# EAGLE library part SIM_HOLDER (library everykey)
SIM card (Mini, ID-000) holder, 6 pins plus holder pads
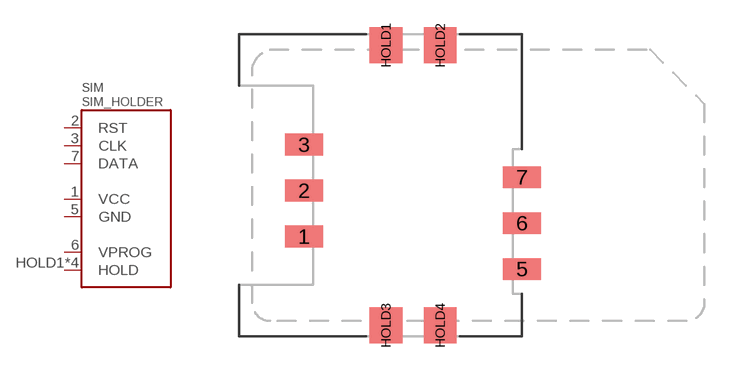
[diagram p90: symbol with the pads of AVX_9162; footprint AVX_9162]

Designator prefix SIM

## SIM_HOLDER_PUSH-PULL  [AVX_9162]
1  VCC  pwr
2  RST
3  CLK
5  GND  pwr
6  VPROG  pwr
7  DATA
HOLD1  HOLD  pas
HOLD2  HOLD  pas
HOLD3  HOLD  pas
HOLD4  HOLD  pas

## Footprint AVX_9162 (pad centres in mm)
SIM card holder
smd 2.1 x 1.2: 1 -6.025,-2.83; 2 -6.025,-0.29; 3 -6.025,2.25; 5 6.025,-4.63; 6 6.025,-2.09; 7 6.025,0.45
smd 1.8 x 2: HOLD1 -1.5,7.75; HOLD2 1.5,7.75; HOLD3 -1.5,-7.75; HOLD4 1.5,-7.75